# Altium footprint library PH20.PcbLib: 1 footprints
Each footprint in its own frame and in the unit in brackets; x right, y up, seen from the top. Pads: shape width x height; smd on the part's side, far side on the other; paste and mask are expansions set on the pad; w line width, h text height; cw(c..) or ccw(c..) is an arc to the next point about the centre after c.
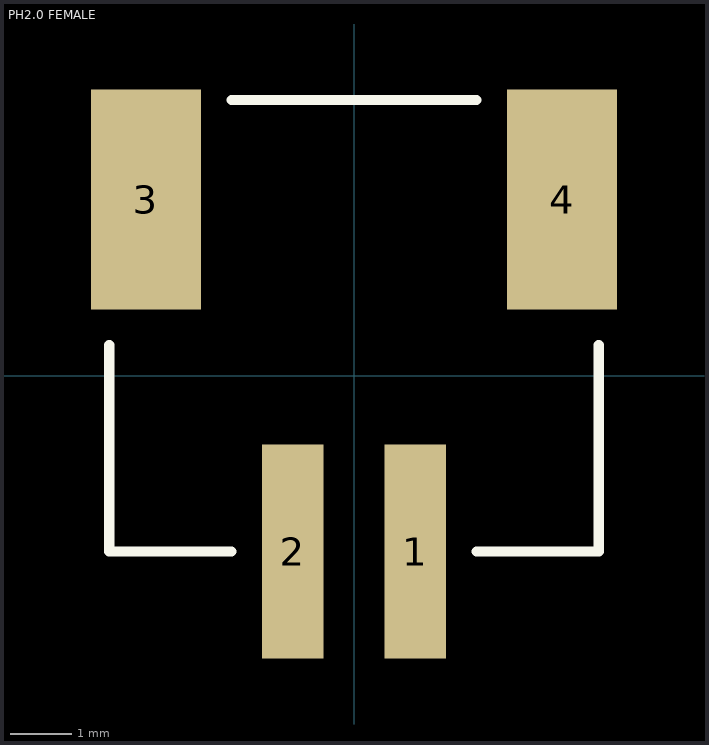
[diagram p0: the footprint, top view; thin cyan lines are the x and y axes]

## PH2.0 FEMALE [mm]
pads (4):
  rect 1x3.5 smd: 1(1,-2.876) 2(-1,-2.876)
  rect 1.8x3.6 smd: 3(-3.4,2.876) 4(3.4,2.876)
Top Overlay:
  lines w0.165: -4,0.5 -4,-2.876 -2,-2.876 ; -2,4.5 2,4.5 ; 2,-2.876 4,-2.876 4,0.5